# EAGLE library part DRV8825 (library MICROCONTROLLER)
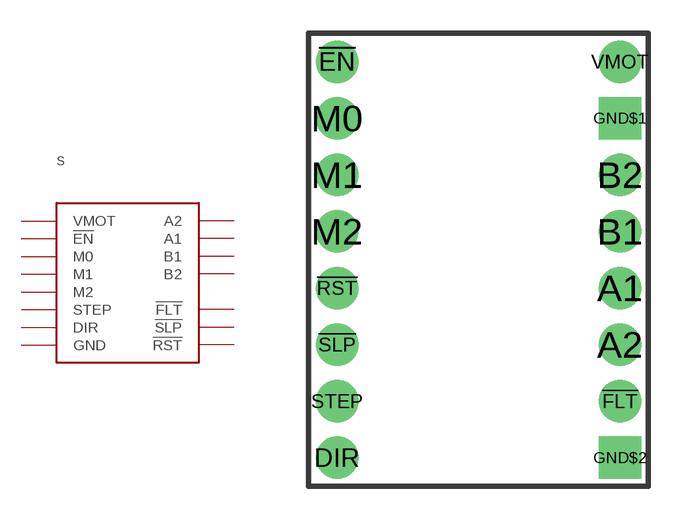
[diagram p10: symbol with the pads of DRV8825; footprint DRV8825]

Designator prefix S

## DRV8825  [DRV8825]
!EN  !EN
!FLT  !FLT
!RST  !RST
!SLP  !SLP
A1  A1
A2  A2
B1  B1
B2  B2
DIR  DIR
GND$1  GND
GND$2  GND
M0  M0
M1  M1
M2  M2
STEP  STEP
VMOT  VMOT

## Footprint DRV8825 (pad centres in mm)
drill 1.016 pad 1.905: !EN 0,17.78; !FLT 12.7,2.54; !RST 0,7.62; !SLP 0,5.08; A1 12.7,7.62; A2 12.7,5.08; B1 12.7,10.16; B2 12.7,12.7; DIR 0,0; M0 0,15.24; M1 0,12.7; M2 0,10.16; STEP 0,2.54; VMOT 12.7,17.78
drill 1.016 pad 1.905 square: GND$1 12.7,15.24; GND$2 12.7,0